# EAGLE library part STTS22H (library STTS22H)
STMicroelectronics STTS22H Temperature Sensor The STTS22H is a digital temperature sensor that communicates over a 2-wire I²C/SMBus 3.0 serial interface. Thanks to its factory calibration, the STTS22H offers high-end accuracy performance over the entire operating temperature range reaching as low as ±0.5 °C without requiring any further calibration at the application level. Datasheet <https://www.st.com/en/mems-and-sensors/stts22h.html#documentation>
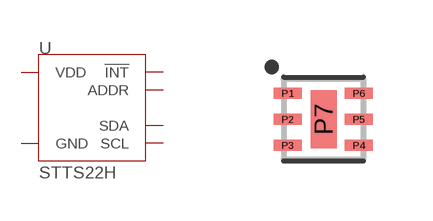
[diagram p0: symbol with the pads of UDFN-6L; footprint UDFN-6L]

Designator prefix U

## STTS22H (PROD_ID: IC-17235)  [UDFN-6L]
P1  SCL
P2  !INT!
P3  VDD  pwr
P4  ADDR
P5  GND  pwr
P6  SDA
P7  GND  pwr

## Footprint UDFN-6L (pad centres in mm)
UDFN-6L Mechanical Specifications: Pad Size: .7mm x .27mm Pin count: 6 Pin pitch: .65mm Package Size: 2mm x 2mm Middle Pad Size: .65mm x 1.45mm Pin Count: 1
smd 0.7 x 0.27: P1 -0.89,0.65; P2 -0.89,0; P3 -0.89,-0.65; P4 0.89,-0.65; P5 0.89,0; P6 0.89,0.65
smd 0.65 x 1.45: P7 0.01,0